# Altium footprint library dolphi_emblab.PcbLib: 126 footprints (part 4 of 8)
Each footprint in its own frame and in the unit in brackets; x right, y up, seen from the top. Pads: shape width x height; smd on the part's side, far side on the other; paste and mask are expansions set on the pad; w line width, h text height; cw(c..) or ccw(c..) is an arc to the next point about the centre after c.
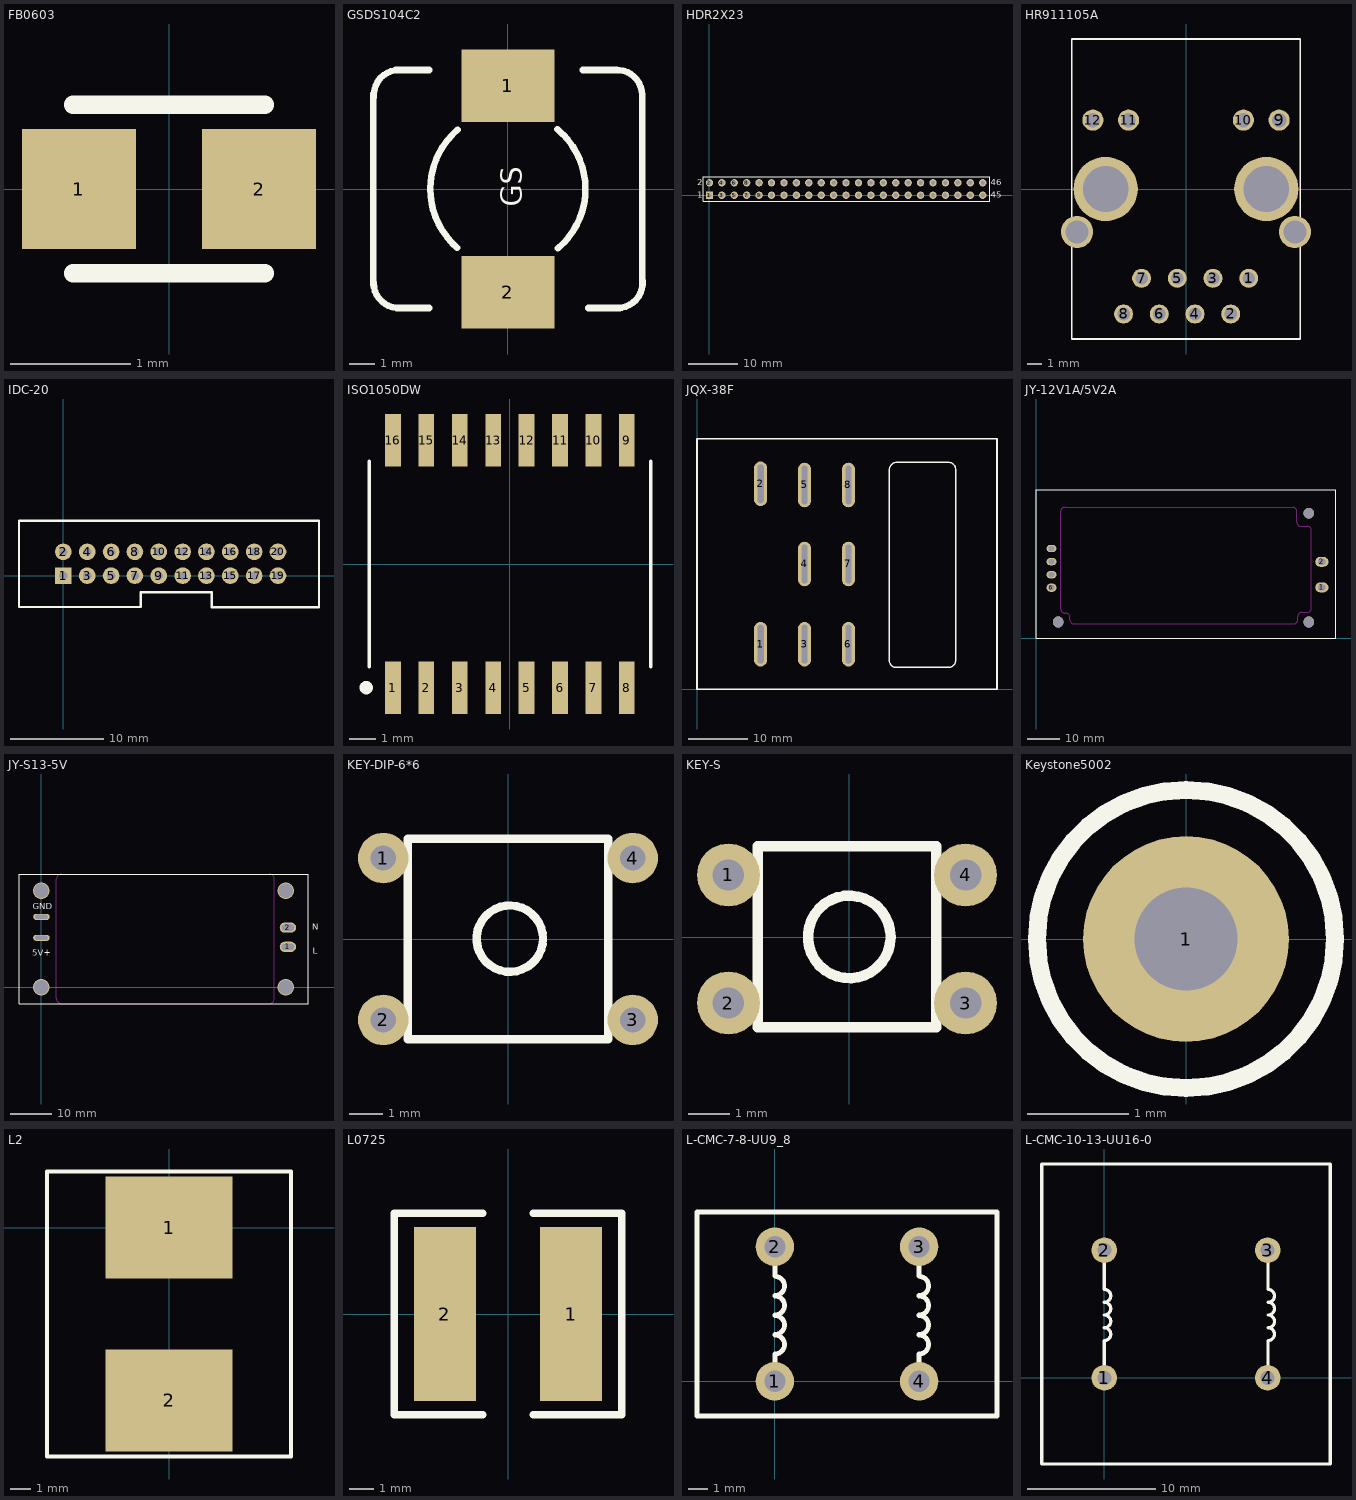
[diagram p3: the footprints below, top view; thin cyan lines are the x and y axes]

## FB0603 [mm]
height 0.95
pads (2):
  rect 0.95x1 smd: 1(-0.75,0) 2(0.75,0)
Top Overlay:
  lines w0.152: -0.8,-0.703 0.8,-0.703 ; -0.8,0.703 0.8,0.703
Mechanical 15:
  lines w0.025: -0.8,-0.4 -0.8,0.4 ; 0.8,-0.4 0.8,0.4
  lines w0.1: -0.8,-0.4 -0.8,0.4

## GSDS104C2 [mm]
height 4
pads (2):
  rect 3.6x2.8 smd: 1(0,4) 2(0,-4)
Top Overlay:
  lines w0.254: -5.2,-3.708 -5.2,3.683 ; -5.189,-3.632 ccw(c-4.221,-3.632) -4.14,-4.597 ; -5.181,3.549 cw(c-4.216,3.629) -4.216,4.597 ; -4.343,4.6 -3.047,4.6 ; -4.293,-4.6 -3.047,-4.6 ; -1.951,-2.279 cw(c0,0) -1.933,2.294 ; 1.913,2.311 cw(c0,0) 1.932,-2.295 ; 2.896,4.6 4.216,4.6 ; 3.101,-4.6 4.318,-4.6 ; 4.14,4.597 cw(c4.221,3.632) 5.189,3.632 ; 4.242,-4.597 ccw(c4.242,-3.629) 5.207,-3.549 ; 5.2,-3.708 5.2,0 ; 5.2,-0.102 5.2,3.683
  text "GS" at 0.54,-0.68 h0.8

## HDR2X23 [mm] "Connector; Header; 23x2 Position"
pads (46):
  rect 1.5x1.5 hole 0.9: 1(0,0)
  round 1.5 hole 0.9: 2(0,2.54) 3(2.54,0) 4(2.54,2.54) 5(5.08,0) 6(5.08,2.54) 7(7.62,0) 8(7.62,2.54) 9(10.16,0) 10(10.16,2.54) 11(12.7,0) 12(12.7,2.54) 13(15.24,0) 14(15.24,2.54) 15(17.78,0) 16(17.78,2.54) 17(20.32,0) 18(20.32,2.54) 19(22.86,0) 20(22.86,2.54) 21(25.4,0) 22(25.4,2.54) 23(27.94,0) 24(27.94,2.54) 25(30.48,0) 26(30.48,2.54) 27(33.02,0) 28(33.02,2.54) 29(35.56,0) 30(35.56,2.54) 31(38.1,0) 32(38.1,2.54) 33(40.64,0) 34(40.64,2.54) 35(43.18,0) 36(43.18,2.54) 37(45.72,0) 38(45.72,2.54) 39(48.26,0) 40(48.26,2.54) 41(50.8,0) 42(50.8,2.54) 43(53.34,0) 44(53.34,2.54) 45(55.88,0) 46(55.88,2.54)
Top Overlay:
  lines w0.2: -1.27,-1.27 -1.27,3.81 57.277,3.81 57.277,-1.27 -1.27,-1.27
  text "45" at 57.531,-0.508 h1.27
  text "46" at 57.531,2.032 h1.27
  text "1" at -2.54,-0.508 h1.27
  text "2" at -2.54,2.032 h1.27

## HR911105A [mm]
height 2.1
pads (16):
  round 1.35 hole 0.89: 1(4.46,-6.35) 2(3.18,-8.89) 3(1.92,-6.35) 4(0.64,-8.89) 5(-0.62,-6.35) 6(-1.9,-8.89) 7(-3.16,-6.35) 8(-4.44,-8.89)
  round 1.5 hole 1.02: 9(6.625,4.9) 10(4.085,4.9) 11(-4.085,4.9) 12(-6.625,4.9)
  round 2.286 hole 1.63: ""(-7.745,-3.05) ""(7.745,-3.05)
  round 4.572 hole 3.25: ""(-5.715,0) ""(5.715,0)
Top Overlay:
  lines w0.127: -8.128,-10.668 8.128,-10.668 8.128,10.668 -8.128,10.668 -8.128,-10.668

## IDC-20 [mil]
height 270.08
pads (20):
  rect 70x70 hole 35: 1(1,0)
  round 70 hole 35: 2(1,100) 3(101,0) 4(101,100) 5(201,0) 6(201,100) 7(301,0) 8(301,100) 9(401,0) 10(401,100) 11(501,0) 12(501,100) 13(601,0) 14(601,100) 15(701,0) 16(701,100) 17(801,0) 18(801,100) 19(901,0) 20(901,100)
Top Overlay:
  lines w10: -185.22,-131.58 -185.22,231.02 1073.05,231.02 1073.05,-133.16 623.91,-133.16 623.91,-68.79 325.91,-68.79 325.91,-131.58 -185.22,-131.58

## ISO1050DW [mm] "IC TXRX ISOLATED CAN 5V 16SOIC"
height 2.65
pads (16):
  rect 0.6x2 smd mask+0.07: 1(-4.445,-4.7) 2(-3.175,-4.7) 3(-1.905,-4.7) 4(-0.635,-4.7) 5(0.635,-4.7) 6(1.905,-4.7) 7(3.175,-4.7) 8(4.445,-4.7) 9(4.445,4.7) 10(3.175,4.7) 11(1.905,4.7) 12(0.635,4.7) 13(-0.635,4.7) 14(-1.905,4.7) 15(-3.175,4.7) 16(-4.445,4.7)
Top Overlay:
  circle w0.254: c-5.461,-4.699 r0.127
  lines w0.127: -5.35,-3.9 -5.35,3.9 ; 5.35,-3.9 5.35,3.9
Mechanical 5:
  text ".Designator" at -1.524,-0.508 h1.02
3D body: height 2.66, standoff 2.65, extent -4.798,-3.2 -4.201,-2.601
3D body: height 2.65, standoff 0, extent -5.25,-3.8 5.25,3.8

## JQX-38F [mm]
height 55.3
pads (8):
  oval 2.2x7.5 hole 1 slot 6.5 at 90 deg: 1(10.7,7.6) 2(10.7,34.6) 3(18.1,7.6) 4(18.1,21.1) 5(18.1,34.4) 6(25.5,7.6) 7(25.5,21.1) 8(25.5,34.4)
Top Overlay:
  lines w0.254: 0,0 50.5,0 50.5,42.2 0,42.2 0,0 ; 32.385,4.826 ccw(c33.528,4.826) 33.528,3.683 42.291,3.683 ccw(c42.291,4.953) 43.561,4.953 43.561,36.957 ccw(c42.291,36.957) 42.291,38.227 33.655,38.227 ccw(c33.655,36.957) 32.385,36.957 32.385,33.147 32.385,4.826
Keep-Out Layer:
  lines w0.254: 42.126,3.683 42.253,3.683

## JY-12V1A/5V2A [mm] "双输出开关电源模块"
pads (6):
  oval 4x3 hole 1.8 slot 2.2 at 0 deg: 1(86.7,15.4) 2(86.7,23.16)
  oval 3x2.2 hole 1.5 slot 1.8 at 0 deg: 3(4.7,27.18) 4(4.7,23.22) 5(4.7,19.26)
  oval 3x2.5 hole 1.5 slot 1.8 at 0 deg: 6(4.7,15.3)
via 6.7,4.9 diameter 3.2 hole 3.2
via 82.7,4.9 diameter 3.2 hole 3.2
via 82.7,37.9 diameter 3.2 hole 3.2
Top Overlay:
  lines w0.254: 0,0 0,45 91,45 91,0 0,0
Keep-Out Layer:
  lines w0.254: 7.493,8.89 ccw(c8.763,8.89) 8.763,7.62 9.017,7.62 cw(c9.017,6.35) 10.287,6.35 10.287,5.588 ccw(c11.557,5.588) 11.557,4.318 78.105,4.318 ccw(c78.105,5.588) 79.375,5.588 79.375,6.604 cw(c80.645,6.604) 80.645,7.874 82.296,7.874 ccw(c82.296,9.144) 83.566,9.144 83.566,32.639 ccw(c82.296,32.639) 82.296,33.909 80.391,33.909 cw(c80.391,35.179) 79.121,35.179 79.121,38.481 ccw(c77.851,38.481) 77.851,39.751 8.763,39.751 ccw(c8.763,38.481) 7.493,38.481 7.493,36.957 7.493,8.89

## JY-S13-5V [mm] "精跃开关电源5V，13W"
pads (4):
  oval 4x2.5 hole 1.5 slot 3 at 0 deg: 1(60,9.8) 2(60,14.5)
  oval 4x1.5 hole 1 slot 3 at 0 deg: 3(0,12) 4(0,17.1)
via 59.5,23.5 diameter 4 hole 3.5
via 0,23.5 diameter 4 hole 3.5
via 59.5,0 diameter 4 hole 3.5
via 0,0 diameter 4 hole 3.5
Top Overlay:
  lines w0.127: -5.461,-4.064 -5.461,27.5 64.897,27.5 64.897,-4.064 -5.461,-4.064
  text "N" at 65.913,13.97 h1.52
  text "L" at 66.04,8.128 h1.52
  text "5V+" at -2.286,7.62 h1.52
  text "GND" at -2.159,18.923 h1.52
Keep-Out Layer:
  lines w0.127: 11.963,-4.013 55.423,-4.013 ccw(c55.423,-2.743) 56.693,-2.743 56.693,26.23 ccw(c55.423,26.23) 55.423,27.5 4.902,27.5 ccw(c4.902,26.23) 3.632,26.23 3.632,-2.743 ccw(c4.902,-2.743) 4.902,-4.013 12.04,-4.013

## KEY-DIP-6*6 [mil]
pads (4):
  round 60 hole 30: 1(-148,96) 2(-148,-96) 3(148,-96) 4(148,96)
Top Overlay:
  circle w10: c2.18,0.39 r39.37
  lines w10: -119,-119 119,-119 119,119 -119,119 -119,-119

## KEY-S [mil]
height 270.08
pads (4):
  round 60 hole 30: 1(-115,59.45) 2(-115,-62.6) 3(111,-62.6) 4(111,59.45)
Top Overlay:
  circle w10: c0.18,0.39 r39.37
  lines w10: -87.06,-85.63 82.86,-85.63 82.86,87.01 -87.06,87.01 -87.06,-85.63

## Keystone5002 [mil] "For Keystone 500x miniature loop terminals"
height 181.1
pads (1):
  round 80 hole 40: 1(0,0)
Top Overlay:
  circle w7: c0,0 r58
Mechanical 5:
  circle w5: c0,0 r58.31
3D body: height 181.97, standoff -118.11, extent -49,-49 49.04,49.23

## L2 [mil]
pads (2):
  rect 250x200 smd: 1(0,0) 2(0,-340)
Top Overlay:
  lines w8: -240,-450 -240,110 240,110 240,-450 -240,-450
3D body: height 0, standoff 0, extent -129,-444 129,104
3D body: height 0, standoff 0, extent -239.98,-449.98 239.98,109.98
3D body: height 0, standoff 0, extent -244,-454 244,114

## L0725 [mm]
pads (2):
  rect 2.5x7 smd: 1(2.54,0) 2(-2.54,0)
Top Overlay:
  lines w0.305: -1.016,-4.064 -4.572,-4.064 -4.572,4.064 -1.016,4.064 ; 1.016,-4.064 4.572,-4.064 4.572,4.064 1.016,4.064

## L-CMC-7-8-UU9_8 [mm]
height 16
pads (4):
  round 2 hole 1.1: 1(0,0) 2(0,7) 3(7.5,7) 4(7.5,0)
Top Overlay:
  lines w0.254: 0,0 0,1.397 ; 0,1.413 ccw(c0,1.913) 0,2.413 ; 0,2.429 ccw(c0,2.929) 0,3.429 ; 0,3.445 ccw(c0,3.945) 0,4.445 ; 0,4.461 ccw(c0,4.961) 0,5.461 ; 0,5.557 0,7 ; 7.493,0 7.493,1.397 ; 7.493,1.413 ccw(c7.493,1.913) 7.493,2.413 ; 7.493,2.429 ccw(c7.493,2.929) 7.493,3.429 ; 7.493,3.445 ccw(c7.493,3.945) 7.493,4.445 ; 7.493,4.461 ccw(c7.493,4.961) 7.493,5.461 7.493,7 ; -4.05,-1.8 11.55,-1.8 11.55,8.8 -4.05,8.8 -4.05,-1.8

## L-CMC-10-13-UU16-0 [mm]
height 18.5
pads (4):
  round 2 hole 1.1: 1(0,0) 2(0,10) 3(12.8,10) 4(12.8,0)
Top Overlay:
  lines w0.254: 0,0 0,2.921 ccw(c0,3.421) 0,3.921 ccw(c0,4.421) 0,4.921 ccw(c0,5.421) 0,5.921 ccw(c0,6.421) 0,6.921 0,10 ; 12.827,0 12.827,2.921 ccw(c12.827,3.421) 12.827,3.921 ccw(c12.827,4.421) 12.827,4.921 ccw(c12.827,5.421) 12.827,5.921 ccw(c12.827,6.421) 12.827,6.921 12.827,10 ; -4.9,-6.75 17.7,-6.75 17.7,16.75 -4.9,16.75 -4.9,-6.75